# Altium footprint library My.PcbLib: 235 footprints (part 10 of 15)
Each footprint in its own frame and in the unit in brackets; x right, y up, seen from the top. Pads: shape width x height; smd on the part's side, far side on the other; paste and mask are expansions set on the pad; w line width, h text height; cw(c..) or ccw(c..) is an arc to the next point about the centre after c.
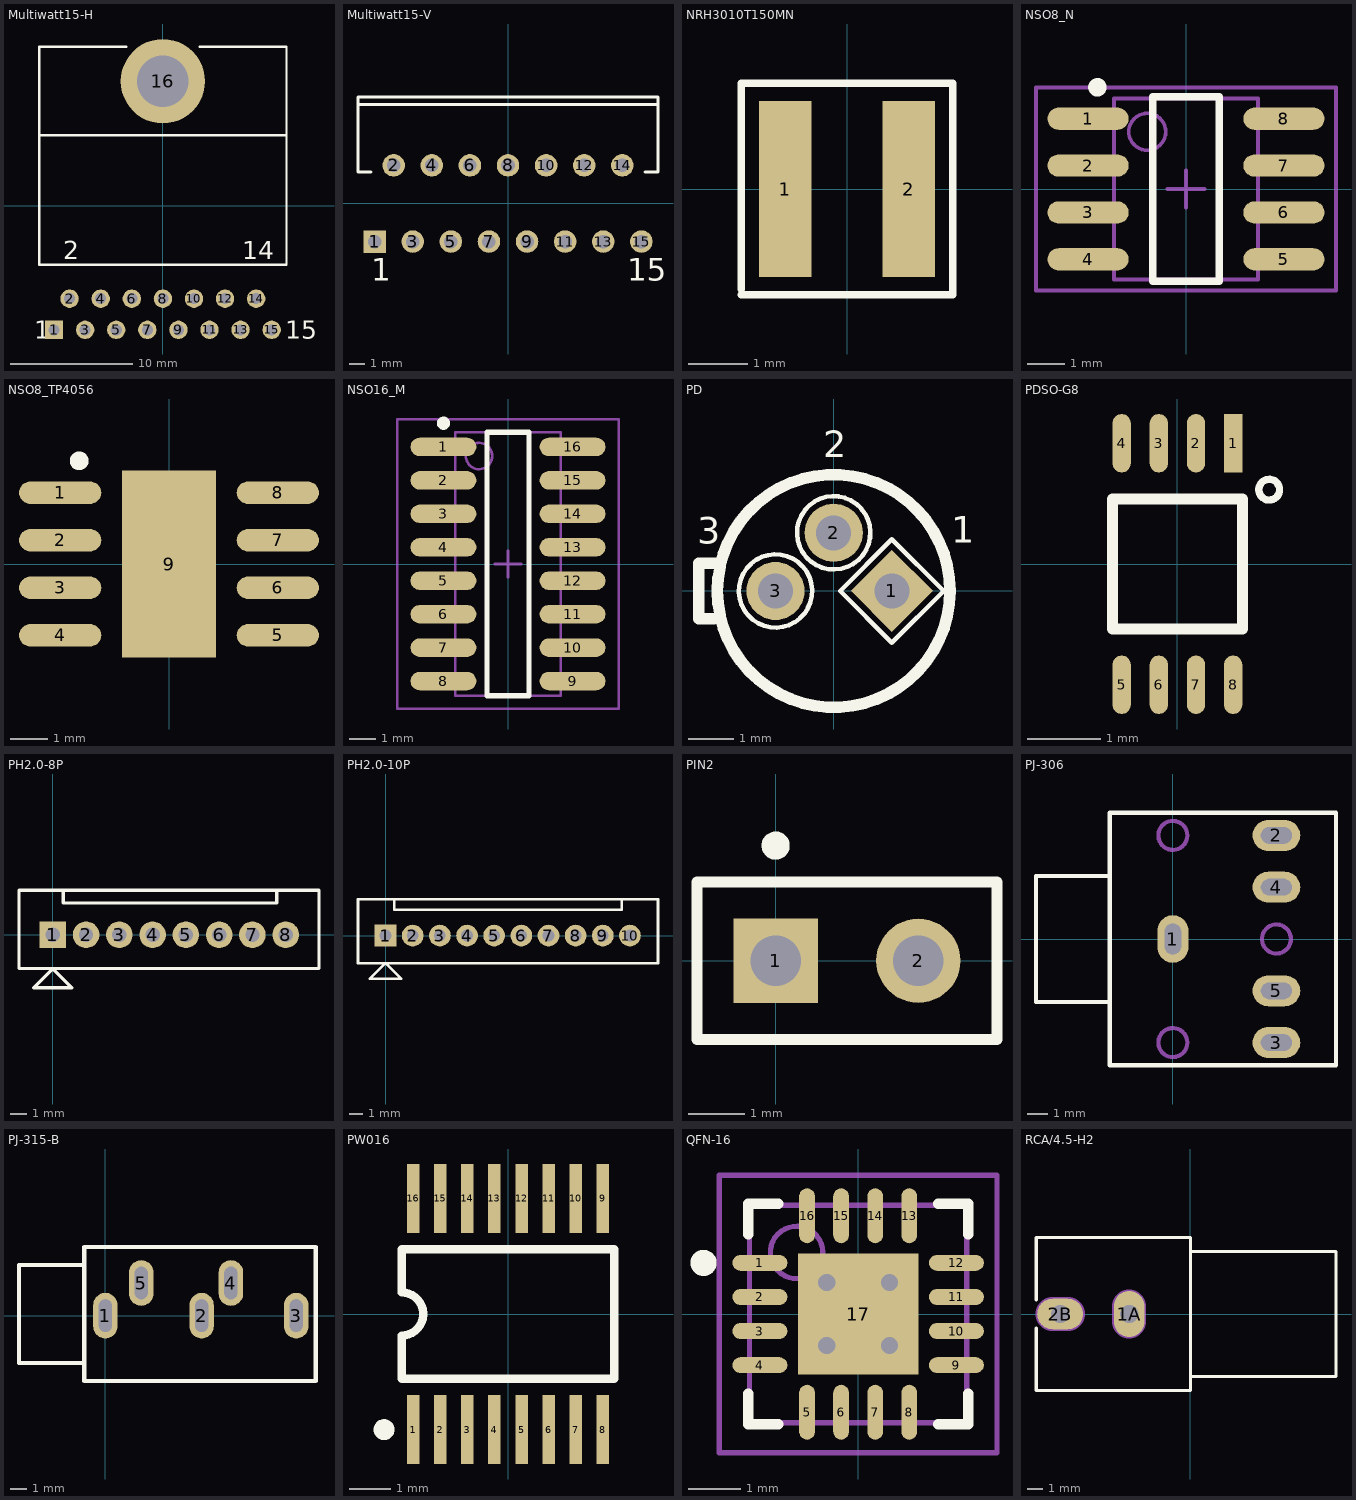
[diagram p9: the footprints below, top view; thin cyan lines are the x and y axes]

## Multiwatt15-H [mm]
height 5
pads (16):
  rect 1.5x1.5 hole 0.9: 1(-8.89,-10.155)
  round 1.5 hole 0.9: 2(-7.62,-7.615) 3(-6.35,-10.155) 4(-5.08,-7.615) 5(-3.81,-10.155) 6(-2.54,-7.615) 7(-1.27,-10.155) 8(0,-7.615) 9(1.27,-10.155) 10(2.54,-7.615) 11(3.81,-10.155) 12(5.08,-7.615) 13(6.35,-10.155) 14(7.62,-7.615) 15(8.89,-10.155)
  round 6.9 hole 4.2: 16(0,10.155)
Top Overlay:
  lines w0.2: -10.1,5.755 10.1,5.755 ; -3,12.955 -10.1,12.955 -10.1,-4.845 10.1,-4.845 10.1,12.955 3,12.955
  text "2" at -8.12,-4.37 h1.5
  text "14" at 6.495,-4.37 h1.5
  text "15" at 10.015,-10.905 h1.5
  text "1" at -10.515,-10.905 h1.5

## Multiwatt15-V [mm]
height 21
pads (15):
  rect 1.5x1.5 hole 0.9: 1(-8.89,-2.54)
  round 1.5 hole 0.9: 2(-7.62,2.54) 3(-6.35,-2.54) 4(-5.08,2.54) 5(-3.81,-2.54) 6(-2.54,2.54) 7(-1.27,-2.54) 8(0,2.54) 9(1.27,-2.54) 10(2.54,2.54) 11(3.81,-2.54) 12(5.08,2.54) 13(6.35,-2.54) 14(7.62,2.54) 15(8.89,-2.54)
Top Overlay:
  lines w0.2: -10,6.59 10,6.59 ; -9.144,2.09 -10,2.09 -10,7.09 10,7.09 10,2.09 9.144,2.09
  text "1" at -9.12,-5.165 h1.5
  text "15" at 7.94,-5.165 h1.5

## NRH3010T150MN [mm]
pads (2):
  rect 0.9x3 smd: 1(-1.05,0) 2(1.05,0)
Top Overlay:
  lines w0.127: -1.8,-1.8 1.8,-1.8 1.8,1.8 -1.8,1.8 -1.8,-1.705

## NSO8_N [mm] "SOIC-max660"
height 1.75
pads (8):
  oval 2.2x0.6 smd: 1(-2.654,1.905) 2(-2.654,0.635) 3(-2.654,-0.635) 4(-2.654,-1.905) 5(2.654,-1.905) 6(2.654,-0.635) 7(2.654,0.635) 8(2.654,1.905)
Top Overlay:
  circle w0.25: c-2.4,2.755 r0.125
  lines w0.2: -0.9,-2.5 0.9,-2.5 0.9,2.5 -0.9,2.5 -0.9,-2.5
Mechanical 13:
  circle w0.1: c-1.05,1.55 r0.5
  lines w0.1: -1.95,-2.45 1.95,-2.45 1.95,2.45 -1.95,2.45 -1.95,-2.45
Mechanical 15:
  lines w0.1: -0.5,0 0.5,0 ; 0,-0.5 0,0.5 ; -4.064,-2.75 4.064,-2.75 4.064,2.75 -4.064,2.75 -4.064,-2.75
3D body: height 1.75, standoff 0, extent -1.95,-2.45 1.95,2.45

## NSO8_TP4056 [mm] "SOIC-max660"
height 1.75
pads (9):
  oval 2.2x0.6 smd: 1(-2.908,1.905) 2(-2.908,0.635) 3(-2.908,-0.635) 4(-2.908,-1.905) 5(2.908,-1.905) 6(2.908,-0.635) 7(2.908,0.635) 8(2.908,1.905)
  rect 2.5x5 smd: 9(0,0)
Top Overlay:
  circle w0.25: c-2.4,2.755 r0.125

## NSO16_M [mm] "SOIC, 16-Leads, Body 9.9x3.9mm, Pitch 1.27mm, IPC Low Density"
height 1.75
pads (16):
  oval 2.5x0.7 smd: 1(-2.45,4.445) 2(-2.45,3.175) 3(-2.45,1.905) 4(-2.45,0.635) 5(-2.45,-0.635) 6(-2.45,-1.905) 7(-2.45,-3.175) 8(-2.45,-4.445) 9(2.45,-4.445) 10(2.45,-3.175) 11(2.45,-1.905) 12(2.45,-0.635) 13(2.45,0.635) 14(2.45,1.905) 15(2.45,3.175) 16(2.45,4.445)
Top Overlay:
  circle w0.25: c-2.45,5.345 r0.125
  lines w0.2: -0.8,-5 -0.8,5 0.8,5 0.8,-5 -0.8,-5
Mechanical 13:
  circle w0.1: c-1.1,4.1 r0.5
  lines w0.1: -2,-5 -2,5 2,5 2,-5 -2,-5
Mechanical 15:
  lines w0.1: -0.5,0 0.5,0 ; 0,-0.5 0,0.5 ; -4.2,-5.5 -4.2,5.5 4.2,5.5 4.2,-5.5 -4.2,-5.5
3D body: height 1.75, standoff 0, extent -2,-5 2,5

## PD [mil]
pads (3):
  rect 50x50 hole 30 rot 45: 1(50,0)
  round 50 hole 30: 2(0,50) 3(-50,0)
Top Overlay:
  circle w10: c0,0 r100
  lines w3.94: -18.5,1 ccw(c-50,0) -18.5,0.98 ; 5.5,0 50,-44.5 94.5,0 50,44.5 5.5,0 ; 31.5,51 ccw(c0,50) 31.5,50.98
  lines w9.84: -103,-24 -116,-24 -116,24 -102,24
  text "3" at -117.5,33 h39.37
  text "2" at -9,107 h39.37
  text "1" at 101,33.5 h39.37
Bottom Overlay:
  lines w3.94: -18.5,1 ccw(c-50,0) -18.5,0.98 ; 5.5,0 50,44.5 94.5,0 50,-44.5 5.5,0 ; 31.5,51 ccw(c0,50) 31.5,50.98

## PDSO-G8 [mm] "U"
height 4
pads (8):
  rect 0.25x0.8 smd: 1(0.762,1.651)
  oval 0.25x0.8 smd: 2(0.254,1.651) 3(-0.254,1.651) 4(-0.762,1.651) 5(-0.762,-1.651) 6(-0.254,-1.651) 7(0.254,-1.651) 8(0.762,-1.651)
Top Overlay:
  circle w0.1: c1.255,1.016 r0.142
  lines w0.15: -0.889,-0.889 -0.889,0.889 0.889,0.889 0.889,-0.889 -0.889,-0.889

## PH2.0-8P [mm]
height 10
pads (8):
  rect 1.6x1.6 hole 0.86: 1(0,0)
  round 1.6 hole 0.86: 2(2,0) 3(4,0) 4(6,0) 5(8,0) 6(10,0) 7(12,0) 8(14,0)
Top Overlay:
  lines w0.2: 0.635,2.667 0.635,1.905 13.462,1.905 13.462,2.667 ; -2.032,-2.032 16.002,-2.032 16.002,2.667 -2.032,2.667 -2.032,-2.032 ; -1.143,-3.175 1.143,-3.175 0,-2.032 -1.143,-3.175

## PH2.0-10P [mm]
height 10
pads (10):
  rect 1.6x1.6 hole 0.86: 1(0,0)
  round 1.6 hole 0.86: 2(2,0) 3(4,0) 4(6,0) 5(8,0) 6(10,0) 7(12,0) 8(14,0) 9(16,0) 10(18,0)
Top Overlay:
  lines w0.2: 0.635,2.667 0.635,1.905 17.399,1.905 17.399,2.667 ; -2.032,-2.032 -2.032,2.667 20.066,2.667 20.066,-2.032 -2.032,-2.032 ; -1.143,-3.175 0,-2.032 1.143,-3.175 -1.143,-3.175

## PIN2 [mm] "Photosensitive Diode; 2 Leads"
height 2.6
pads (2):
  rect 1.5x1.5 hole 0.9: 1(0,0)
  round 1.5 hole 0.9: 2(2.54,0)
Top Overlay:
  circle w0.25: c0,2.05 r0.125
  lines w0.2: -1.4,-1.4 3.94,-1.4 3.94,1.4 -1.4,1.4 -1.4,-1.4

## PJ-306 [mm] "立体声耳机插座"
pads (5):
  oval 1.5x2.3 hole 0.8 slot 1.5 at 90 deg: 1(0,0)
  oval 2.3x1.5 hole 0.8 slot 1.5 at 0 deg: 2(5,5) 3(5,-5) 4(5,2.5) 5(5,-2.5)
Top Overlay:
  lines w0.2: -3.048,-3.048 -6.604,-3.048 -6.604,3.048 -3.048,3.048 ; -3.048,-6.096 7.874,-6.096 7.874,6.096 -3.048,6.096 -3.048,0 -3.048,-6.096
Mechanical 1:
  circle w0.2: c0,-5 r0.7
  circle w0.2: c0,5 r0.7
  circle w0.2: c5,0 r0.7

## PJ-315-B [mm] "立体声耳机插座"
pads (5):
  oval 1.5x2.8 hole 0.8 slot 2 at 90 deg: 1(0,0) 2(5.9,0) 3(11.7,0) 4(7.7,2) 5(2.2,2)
Top Overlay:
  lines w0.254: -1.3,-2.9 -5.3,-2.9 -5.3,3.1 -1.3,3.1 ; -1.3,-4 12.9,-4 12.9,4.2 -1.3,4.2 -1.3,-4

## PW016 [mm] "Shrink Small Outline; 16 Leads; Body Width 4.4 mm; Pitch 0.65 mm"
height 1.2
pads (16):
  rect 0.3x1.65 smd: 1(-2.275,-2.775) 2(-1.625,-2.775) 3(-0.975,-2.775) 4(-0.325,-2.775) 5(0.325,-2.775) 6(0.975,-2.775) 7(1.625,-2.775) 8(2.275,-2.775) 9(2.275,2.775) 10(1.625,2.775) 11(0.975,2.775) 12(0.325,2.775) 13(-0.325,2.775) 14(-0.975,2.775) 15(-1.625,2.775) 16(-2.275,2.775)
Top Overlay:
  circle w0.25: c-2.975,-2.775 r0.125
  lines w0.2: -2.55,-1.55 -2.55,-0.517 ccw(c-2.55,0) -2.55,0.517 -2.55,1.55 2.55,1.55 2.55,-1.55 -2.55,-1.55

## QFN-16 [mm] "QFN"
height 0.8
pads (17):
  oval 1.05x0.3 smd: 1(-1.875,0.975) 2(-1.875,0.325) 3(-1.875,-0.325) 4(-1.875,-0.975) 9(1.875,-0.975) 10(1.875,-0.325) 11(1.875,0.325) 12(1.875,0.975)
  oval 0.3x1.05 smd: 5(-0.975,-1.875) 6(-0.325,-1.875) 7(0.325,-1.875) 8(0.975,-1.875) 13(0.975,1.875) 14(0.325,1.875) 15(-0.325,1.875) 16(-0.975,1.875)
  rect 2.3x2.3 smd: 17(0,0)
via -0.6,0.6 diameter 0.66 hole 0.33
via 0.6,0.6 diameter 0.66 hole 0.33
via -0.6,-0.6 diameter 0.66 hole 0.33
via 0.6,-0.6 diameter 0.66 hole 0.33
Top Overlay:
  circle w0.25: c-2.95,0.975 r0.125
  lines w0.2: -2.1,-1.525 -2.1,-2.1 -1.525,-2.1 ; -2.1,1.525 -2.1,2.1 -1.525,2.1 ; 1.525,-2.1 2.1,-2.1 2.1,-1.525 ; 1.525,2.1 2.1,2.1 2.1,1.525
Mechanical 13:
  circle w0.1: c-1.175,1.175 r0.5
  lines w0.1: -2.075,-2.075 -2.075,2.075 2.075,2.075 2.075,-2.075 -2.075,-2.075
Mechanical 15:
  lines w0.1: -0.5,0 0.5,0 ; 0,-0.5 0,0.5 ; -2.65,-2.65 -2.65,2.65 2.65,2.65 2.65,-2.65 -2.65,-2.65
3D body: height 0.8, standoff 0, extent -2.075,-2.075 2.075,2.075

## RCA/4.5-H2 [mm] "Two Conductor Jack (RCA)"
height 13
pads (2):
  oval 2x3 hole 1.2: 1A(-4,0)
  oval 3x2 hole 1.2: 2B(-8.496,0)
Top Overlay:
  lines w0.2: -10.075,5 -0.018,5 ; -10.057,-0.92 -10.057,-5 0,-5 0,5 ; -10.057,0.92 -10.057,5 ; 0,-4.065 9.5,-4.065 9.5,4.065 0,4.065
Mechanical 1:
  lines w1.2: -8.996,0 -7.996,0 ; -4,-0.5 -4,0.5
Mechanical 2:
  lines w2.216: -8.996,0 -7.996,0 ; -4,-0.5 -4,0.5